# Altium integrated library USB-AM-S-X-X-TH-R.IntLib: 1 symbol
Pins are listed as number, name and electrical type; pins without a type are passive.

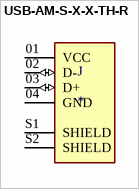
[diagram p0: symbol USB-AM-S-X-X-TH-R]

## USB-AM-S-X-X-TH-R
designator J
USB Connectors USB 2.0 Interface, Type A; MP: USB-AM-S-S-B-TH-R; MF: Samtec; Package: None; Availability: Unavailable; SnapEDA_Link: https://www.snapeda.com/parts/USB-AM-S-S-B-TH-R/Samtec/view-part/3329658/?ref=snap; Mouser-Purchase-URL: https://snapeda.com/shop?store=Mouser&id=3329658; Value: *; Price: None
footprint SAMTEC_USB-AM-S-X-X-TH-R
pins: 01 VCC (power), 02 D- (io), 03 D+ (io), 04 GND (power), S1 SHIELD, S2 SHIELD